# EAGLE library part MAX3421EEHJ+ (library ICs)
The MAX3421E USB peripheral/host controller contains the digital logic and analog circuitry necessary to implement a full-speed USB peripheral or a full-/lowspeed host compliant to USB specification rev 2.0. A built-in transceiver features ±15kV ESD protection and programmable USB connect and disconnect. An internal serial interface engine (SIE) handles low-level USB protocol details such as error checking and bus retries. The MAX3421E operates using a register set accessed by an SPI interface that operates up to 26MHz. Any SPI master (microprocessor, ASIC, DSP, etc.) can add USB peripheral or host functionality using the simple 3- or 4- wire SPI interface. The MAX3421E makes the vast collection of USB peripherals available to any microprocessor, ASIC, or DSP when it operates as a USB host. For point-to-point solutions, for example, a USB keyboard or mouse interfaced to an embedded system, the firmware that operates the MAX3421E can be simple since only a targeted device is supported. Internal level translators allow the SPI interface to run at a system voltage between 1.4V and 3.6V. USB-timed operations are done inside the MAX3421E with interrupts provided at completion so an SPI master does not need timers to meet USB timing requirements. The MAX3421E includes eight general-purpose inputs and outputs so any microprocessor that uses I/O pins to implement the SPI interface can reclaim the I/O pins and gain additional ones. The MAX3421E operates over the extended -40°C to +85°C temperature range and is available in a 32-pin TQFP package (5mm x 5mm) and a 32-pin TQFN package (5mm x 5mm).
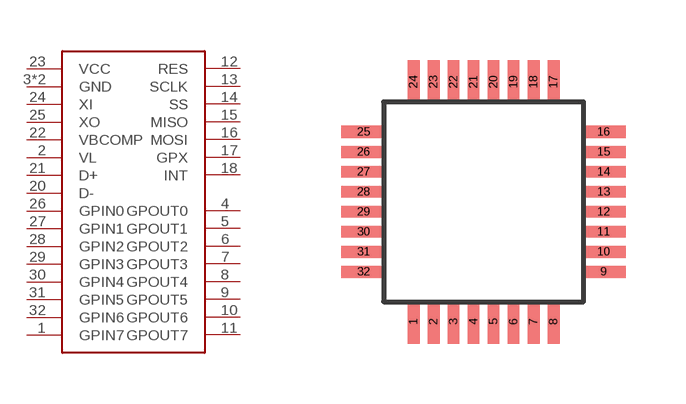
[diagram p1: symbol with the pads of TQFP32; footprint TQFP32]

Designator prefix -

## MAX3421EEHJ+  [TQFP32]
1  GPIN7
2  VL
3  GND
4  GPOUT0
5  GPOUT1
6  GPOUT2
7  GPOUT3
8  GPOUT4
9  GPOUT5
10  GPOUT6
11  GPOUT7
12  RES
13  SCLK
14  SS
15  MISO
16  MOSI
17  GPX
18  INT
19  GND
20  D-
21  D+
22  VBCOMP
23  VCC
24  XI
25  XO
26  GPIN0
27  GPIN1
28  GPIN2
29  GPIN3
30  GPIN4
31  GPIN5
32  GPIN6

## Footprint TQFP32 (pad centres in mm)
smd 0.3 x 1.1: 1 0.75,-0.5; 2 1.25,-0.5; 3 1.75,-0.5; 4 2.25,-0.5; 5 2.75,-0.5; 6 3.25,-0.5; 7 3.75,-0.5; 8 4.25,-0.5; 17 4.25,5.5; 18 3.75,5.5; 19 3.25,5.5; 20 2.75,5.5; 21 2.25,5.5; 22 1.75,5.5; 23 1.25,5.5; 24 0.75,5.5
smd 1.1 x 0.3: 9 5.5,0.75; 10 5.5,1.25; 11 5.5,1.75; 12 5.5,2.25; 13 5.5,2.75; 14 5.5,3.25; 15 5.5,3.75; 16 5.5,4.25; 25 -0.5,4.25; 26 -0.5,3.75; 27 -0.5,3.25; 28 -0.5,2.75; 29 -0.5,2.25; 30 -0.5,1.75; 31 -0.5,1.25; 32 -0.5,0.75